# EAGLE library part SN74LVC1G3157 (library drom)
Miniature single cell, fully integrated Li-Ion, Li-polymer charge management controller http://ww1.microchip.com/downloads/en/DeviceDoc/21984a.pdf
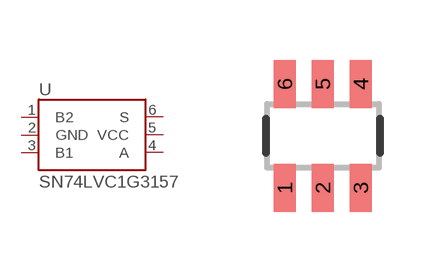
[diagram p4: symbol with the pads of SOT23-6; footprint SOT23-6]

Designator prefix U

## SN74LVC1G3157  [SOT23-6]
1  B2  in
2  GND  pwr
3  B1  in
4  A  out
5  VCC  pwr
6  S  in

## Footprint SOT23-6 (pad centres in mm)
Small Outline Transistor
smd 0.55 x 1.2: 1 -0.95,-1.3; 2 0,-1.3; 3 0.95,-1.3; 4 0.95,1.3; 5 0,1.3; 6 -0.95,1.3